# EAGLE library part ADP1850 (library analog-devices)
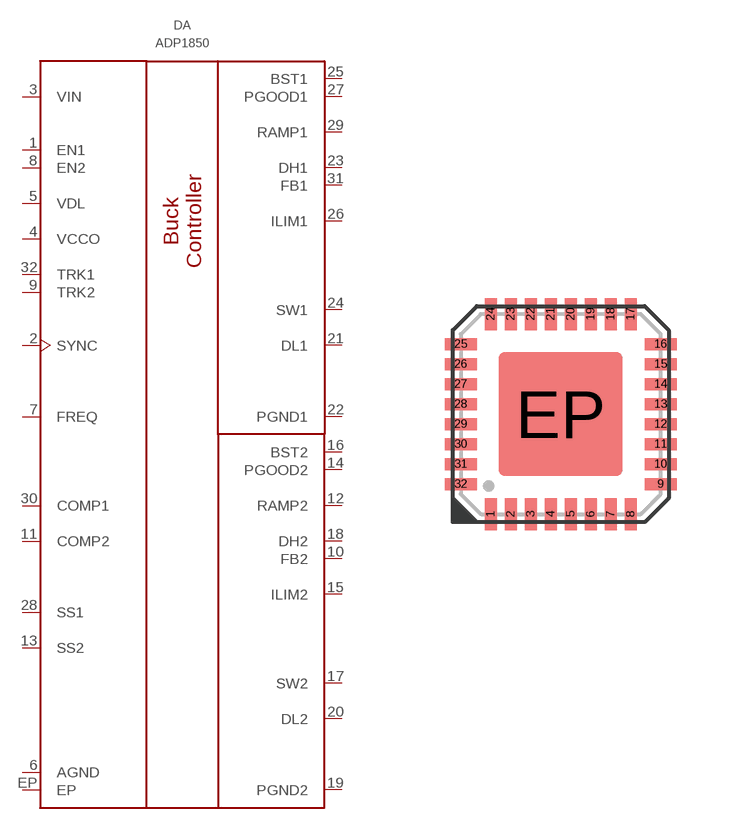
[diagram p23: symbol with the pads of LFCSP-32; footprint LFCSP-32]

Designator prefix DA

## ADP1850ACPZ-R7  [LFCSP-32]
1  EN1  in
2  SYNC  in
3  VIN  pwr
4  VCCO  pwr
5  VDL  pwr
6  AGND  pwr
7  FREQ  pas
8  EN2  in
9  TRK2  out
10  FB2  out
11  COMP2  out
12  RAMP2  pas
13  SS2  in
14  PGOOD2  out
15  ILIM2  in
16  BST2  out
17  SW2  in
18  DH2  in
19  PGND2  pwr
20  DL2  in
21  DL1  in
22  PGND1  pwr
23  DH1  in
24  SW1  in
25  BST1  out
26  ILIM1  in
27  PGOOD1  out
28  SS1  in
29  RAMP1  pas
30  COMP1  out
31  FB1  out
32  TRK1  out
EP  EP  pwr

## Footprint LFCSP-32 (pad centres in mm)
smd 0.3 x 0.8: 1 -1.75,-2.5; 2 -1.25,-2.5; 3 -0.75,-2.5; 4 -0.25,-2.5; 5 0.25,-2.5; 6 0.75,-2.5; 7 1.25,-2.5; 8 1.75,-2.5; 17 1.75,2.5; 18 1.25,2.5; 19 0.75,2.5; 20 0.25,2.5; 21 -0.25,2.5; 22 -0.75,2.5; 23 -1.25,2.5; 24 -1.75,2.5
smd 0.8 x 0.3: 9 2.5,-1.75; 10 2.5,-1.25; 11 2.5,-0.75; 12 2.5,-0.25; 13 2.5,0.25; 14 2.5,0.75; 15 2.5,1.25; 16 2.5,1.75; 25 -2.5,1.75; 26 -2.5,1.25; 27 -2.5,0.75; 28 -2.5,0.25; 29 -2.5,-0.25; 30 -2.5,-0.75; 31 -2.5,-1.25; 32 -2.5,-1.75
smd 3.1 x 3.1: EP 0,0